# Altium footprint library PCB1.PcbLib: 22 footprints (part 1 of 2)
Each footprint in its own frame and in the unit in brackets; x right, y up, seen from the top. Pads: shape width x height; smd on the part's side, far side on the other; paste and mask are expansions set on the pad; w line width, h text height; cw(c..) or ccw(c..) is an arc to the next point about the centre after c.
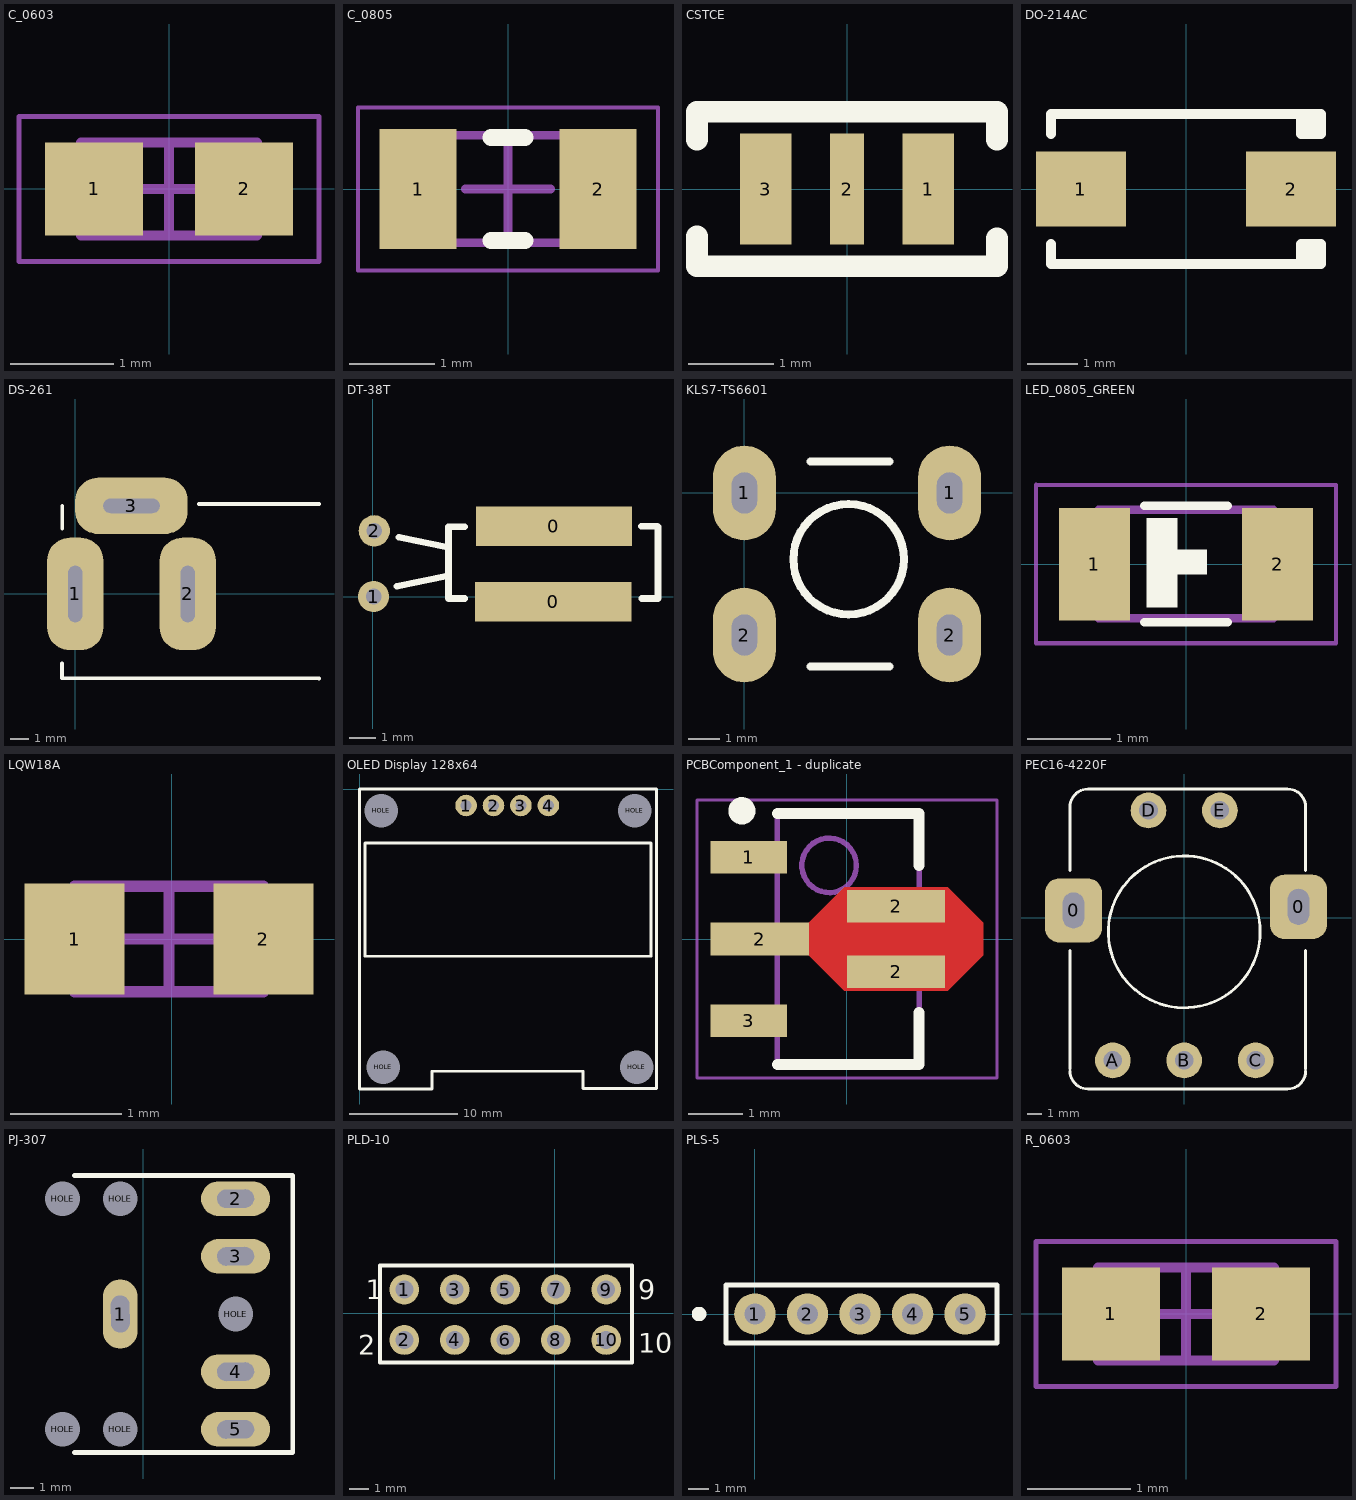
[diagram p0: the footprints below, top view; thin cyan lines are the x and y axes]

## C_0603 [mm]
pads (2):
  rect 0.95x0.9 smd: 1(-0.725,0) 2(0.725,0)
Mechanical 13:
  lines w0.1: -0.85,-0.45 -0.85,0.45 0.85,0.45 0.85,-0.45 -0.85,-0.45
Mechanical 15:
  lines w0.05: -1.45,-0.7 -1.45,0.7 1.45,0.7 1.45,-0.7 -1.45,-0.7
  lines w0.1: -0.45,0 0.45,0 ; 0,-0.45 0,0.45
3D body "User Library-cap_0603-1.step": height 0.8, standoff 0, extent -0.8,-0.4 0.8,0.4

## C_0805 [mm]
pads (2):
  rect 0.9x1.4 smd: 1(-1.05,0) 2(1.05,0)
Top Overlay:
  lines w0.2: -0.2,-0.6 0.2,-0.6 ; -0.2,0.6 0.2,0.6
Mechanical 13:
  lines w0.1: -1,-0.625 -1,0.625 1,0.625 1,-0.625 -1,-0.625
Mechanical 15:
  lines w0.05: -1.75,-0.95 -1.75,0.95 1.75,0.95 1.75,-0.95 -1.75,-0.95
  lines w0.1: -0.5,0 0.5,0 ; 0,-0.5 0,0.5
3D body "User Library-C0805-2.step": height 0.8, standoff 0, extent -1,-0.625 1,0.625

## CSTCE [mm]
pads (3):
  rect 0.6x1.3 smd: 1(0.95,0) 3(-0.95,0)
  rect 0.4x1.3 smd: 2(0,0)
Top Overlay:
  lines w0.254: -1.75,-0.9 1.75,-0.9 1.75,-0.575 ; -1.75,-0.875 -1.75,-0.55 ; -1.75,0.575 -1.75,0.9 1.75,0.9 1.75,0.575
3D body "User Library-Resonators(CSTCE16M0V53-R0).step": height 0.9, standoff 0, extent -1.6,-0.65 1.6,0.65

## DO-214AC [mm]
pads (2):
  rect 1.8x1.5 smd: 1(-2.1,0) 2(2.1,0)
Top Overlay:
  lines w0.2: -2.7,-1.1 -2.7,-1.5 2.7,-1.5 2.7,-1.1 2.3,-1.1 2.3,-1.4 2.6,-1.4 2.6,-1.2 ; -2.7,1.1 -2.7,1.5 2.7,1.5 2.7,1.1 ; 2.3,1.4 2.3,1.1 2.5,1.1 2.7,1.1 ; 2.4,-1.4 2.5,-1.4 ; 2.4,-1.2 2.5,-1.2 2.5,-1.3 ; 2.6,1.2 2.4,1.2 2.4,1.4 2.7,1.4 2.7,1.1
3D body "User Library-DO-214AC_SMA.step": height 2.25, standoff 0.05, extent -2.5,-1.35 2.5,1.35

## DS-261 [mm]
pads (3):
  rrect80% 3x6 hole 0.762 slot 3 at 90 deg: 1(0,0) 2(6,0)
  rrect80% 6x3 hole 0.762 slot 3 at 0 deg: 3(3,4.7)
Top Overlay:
  lines w0.2: -0.7,-3.7 -0.7,-4.5 13,-4.5 ; -0.7,3.5 -0.7,4.7 ; 6.6,4.8 13,4.8
3D body "User Library-DS-261A.step": height 11.1, standoff -3.4, extent -0.7,-4.5 13.7,4.8

## DT-38T [mm]
pads (4):
  rect 6x1.5 smd: 0(6.925,-0.2) 0(6.95,2.7)
  round 1.2 hole 0.6: 1(0.025,0) 2(0.05,2.525)
Top Overlay:
  lines w0.254: 0.925,0.4 2.8,0.775 ; 1,2.275 2.875,1.9 ; 3.525,-0.075 2.9,-0.075 2.9,2.675 3.525,2.675 ; 10.3,2.7 10.925,2.7 ; 10.325,-0.075 10.95,-0.075 10.95,2.675
3D body "User Library-KDS-DT-38.step": height 3.1, standoff -2.5, extent -0.138,-0.25 11.037,2.75

## KLS7-TS6601 [mm]
pads (4):
  oval 2x3 hole 0.8 slot 1.3 at 90 deg: 1(0,0) 1(6.5,0) 2(0,-4.5) 2(6.5,-4.5)
Top Overlay:
  circle w0.254: c3.3,-2.1 r1.75
  lines w0.254: 2.1,-5.5 4.6,-5.5 ; 2.1,1 4.6,1
3D body "User Library-TPxxxx (Switch).step": height 5.4, standoff -3.09, extent -0.835,-5.249 7.14,0.751

## LED_0805_GREEN [mm]
pads (2):
  rect 0.85x1.35 smd: 1(-1.1,0) 2(1.1,0)
Top Overlay:
  rectangle: -0.1,-0.125 0.25,0.175
  rectangle: -0.475,-0.525 -0.1,0.55
  lines w0.1: -0.5,-0.7 0.5,-0.7 ; -0.5,0.7 0.5,0.7
Mechanical 13:
  lines w0.1: -1.05,-0.65 1.05,-0.65 1.05,0.65 -1.05,0.65 -1.05,-0.65
Mechanical 15:
  lines w0.05: -1.8,-0.95 1.8,-0.95 1.8,0.95 -1.8,0.95 -1.8,-0.95
3D body "User Library-led_0805_green.step": height 1.1, standoff 0, extent -1.01,-0.625 1.01,0.625

## LQW18A [mm]
pads (2):
  rect 0.9x1 smd: 1(-0.875,0) 2(0.825,0)
Mechanical 13:
  lines w0.1: -0.875,-0.475 -0.875,0.475 0.825,0.475 0.825,-0.475 -0.875,-0.475
Mechanical 15:
  lines w0.1: -0.5,0 0.45,0 ; -0.025,-0.475 -0.025,0.475
3D body "User Library-INDC1608X80-MURATA_LQW18A.step": height 0.81, standoff 0, extent -0.8,-0.45 0.8,0.45

## OLED Display 128x64 [mm]
pads (8):
  round 2 hole 1: 1(9.87,-1.53) 2(12.41,-1.53) 3(14.95,-1.53) 4(17.49,-1.53)
  round 2 hole 3.1: HOLE(2,-2) HOLE(2.2,-25.8) HOLE(25.5,-2) HOLE(25.7,-25.8)
Top Overlay:
  lines w0.254: 0.25,0 0,0 ; 20.7,-27.75 27.475,-27.75 ; 20.7,-27.65 20.7,-26.15 6.7,-26.15 6.7,-27.8 0,-27.8 0,0 ; 27.5,-27.75 27.5,0 0,0 ; 0.5,-15.5 27,-15.5 27,-5 0.5,-5 0.5,-15.5
3D body "128x64Oled.step": height 6, standoff -5.25, extent 0.2,-27.55 27.2,-0.05

## PCBComponent_1 - duplicate [mm]
pads (5):
  rect 1.4x0.6 smd: 1(-1.8,1.5) 3(-1.8,-1.5)
  rect 1.8x0.6 smd: 2(-1.6,0) 2(0.9,-0.6) 2(0.9,0.6)
Top Layer:
  region: -0.7,0.3 -0.05,0.95 1.85,0.95 2.5,0.3 2.5,-0.3 1.85,-0.95 -0.05,-0.95 -0.7,-0.3
Top Overlay:
  circle w0.25: c-1.927,2.35 r0.125
  lines w0.2: -1.277,-2.3 1.323,-2.3 1.323,-1.35 ; -1.277,2.3 1.323,2.3 1.323,1.35
Mechanical 13:
  circle w0.1: c-0.327,1.35 r0.5
  lines w0.1: -1.277,-2.3 -1.277,2.3 1.323,2.3 1.323,-2.3 -1.277,-2.3
Mechanical 15:
  lines w0.05: -2.75,-2.55 -2.75,2.55 2.75,2.55 2.75,-2.55 -2.75,-2.55
  lines w0.1: -0.477,0 0.523,0 ; 0.023,-0.5 0.023,0.5
3D body "CircuitWorks-SOT-89.step": height 1.5, standoff 0, extent -2.15,-2.25 1.85,2.25

## PEC16-4220F [mm]
pads (7):
  rrect50% 4x4.5 hole 2.5 slot 1.5 at 0 deg: 0(-7.75,0.5) 0(8,0.75)
  round 2.5 hole 1.3: A(-5,-10) B(0,-10) C(5,-10) D(-2.5,7.5) E(2.5,7.5)
Top Overlay:
  circle w0.2: c0,-1 r5.315
  lines w0.2: -8,-10.73 ccw(c-6.73,-10.73) -6.73,-12 7.23,-12 ccw(c7.23,-10.73) 8.5,-10.73 ; -8,-10.6 -8,-2.3 ; -8,3.3 -8,7.73 cw(c-6.73,7.73) -6.73,9 0,9 7.23,9 cw(c7.23,7.73) 8.5,7.73 8.5,3.3 ; 8.5,-10.6 8.5,-2.3
3D body "User Library-Encoder PEC16-4220F-S0024 BOURNS.step": height 28, standoff -3.5, extent -8.175,-11.95 8.325,8.85
3D body "User Library-Eagle Plastic Devices 45KN018-GRX.step": height 29.51, standoff 18, extent -9.9,-9.603 9.707,10.003

## PJ-307 [mm]
pads (10):
  oval 1.5x3 hole 0.8 slot 1.6 at 90.8 deg: 1(-1,9.5)
  oval 3x1.5 hole 0.8 slot 1.6 at 0.8 deg: 2(4,14.5) 3(4,12) 4(4,7) 5(4,4.5)
  round 1.2 hole 1.5: HOLE(-3.5,4.5) HOLE(-3.5,14.5) HOLE(-1,4.5) HOLE(-1,14.5) HOLE(4,9.5)
Top Overlay:
  lines w0.2: -3,3.5 6.475,3.5 6.475,15.5 -3,15.5
3D body "pj-307.step": height 5.5, standoff -3.2, extent -7.55,3.475 6.45,15.475

## PLD-10 [mm]
pads (10):
  round 1.5 hole 0.9: 1(-7.569,1.183) 2(-7.569,-1.357) 3(-5.029,1.183) 4(-5.029,-1.357) 5(-2.489,1.183) 6(-2.489,-1.357) 7(0.051,1.183) 8(0.051,-1.357) 9(2.591,1.183) 10(2.591,-1.357)
Top Overlay:
  lines w0.2: -8.8,-2.5 -8.8,2.4 3.9,2.4 3.9,-2.5 -8.8,-2.5
  text "10" at 4.2,-2 h1
  text "9" at 4.2,0.7 h1
  text "2" at -9.9,-2.1 h1
  text "1" at -9.5,0.7 h1
3D body "User Library-PLD-10-2.step": height 8.54, standoff -3, extent -8.85,-2.6 3.85,2.48

## PLS-5 [mm]
pads (5):
  round 2 hole 1: 1(0,0) 2(2.54,0) 3(5.08,0) 4(7.62,0) 5(10.16,0)
Top Overlay:
  circle w0.5: c-2.7,0 r0.1
  lines w0.254: -1.4,-1.4 -1.4,1.4 11.7,1.4 11.7,-1.4 -1.4,-1.4
3D body "User Library-PLS-5.step": height 8.54, standoff -3, extent -1.2,-1.3 11.5,1.24

## R_0603 [mm]
pads (2):
  rect 0.95x0.9 smd: 1(-0.725,0) 2(0.725,0)
Mechanical 13:
  lines w0.1: -0.85,-0.45 -0.85,0.45 0.85,0.45 0.85,-0.45 -0.85,-0.45
Mechanical 15:
  lines w0.05: -1.45,-0.7 -1.45,0.7 1.45,0.7 1.45,-0.7 -1.45,-0.7
  lines w0.1: -0.45,0 0.45,0 ; 0,-0.45 0,0.45
3D body "User Library-RESC1608X05N.step": height 0.45, standoff 0, extent -0.8,-0.45 0.75,0.4